# EAGLE library part 4051 (library EnigmaMon)
8-channel ANALOG MULTIPLEXER
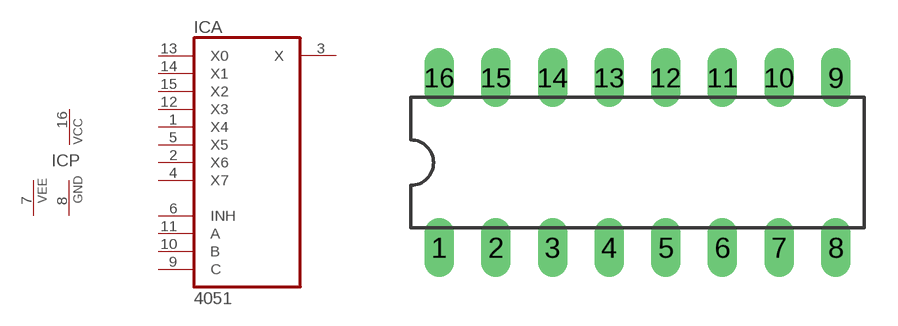
[diagram p4: symbol with the pads of DIL16-3; footprint DIL16-3]

Designator prefix IC; gates A=4051 P=PWR+VEE

## 4051N  [DIL16-3]
1  A:X4
2  A:X6
3  A:X
4  A:X7
5  A:X5
6  A:INH  in
7  P:VEE  pwr
8  P:GND  pwr
9  A:C  in
10  A:B  in
11  A:A  in
12  A:X3
13  A:X0
14  A:X1
15  A:X2
16  P:VCC  pwr

## Footprint DIL16-3 (pad centres in mm)
Dual In Line Package
drill 0.813 long: 1 -8.89,-3.81; 2 -6.35,-3.81; 3 -3.81,-3.81; 4 -1.27,-3.81; 5 1.27,-3.81; 6 3.81,-3.81; 7 6.35,-3.81; 8 8.89,-3.81; 9 8.89,3.81; 10 6.35,3.81; 11 3.81,3.81; 12 1.27,3.81; 13 -1.27,3.81; 14 -3.81,3.81; 15 -6.35,3.81; 16 -8.89,3.81